# Altium schematic symbol library Control_Part_V1.1.SchLib: 3 symbols
Pins are listed as number, name and electrical type; pins without a type are passive.

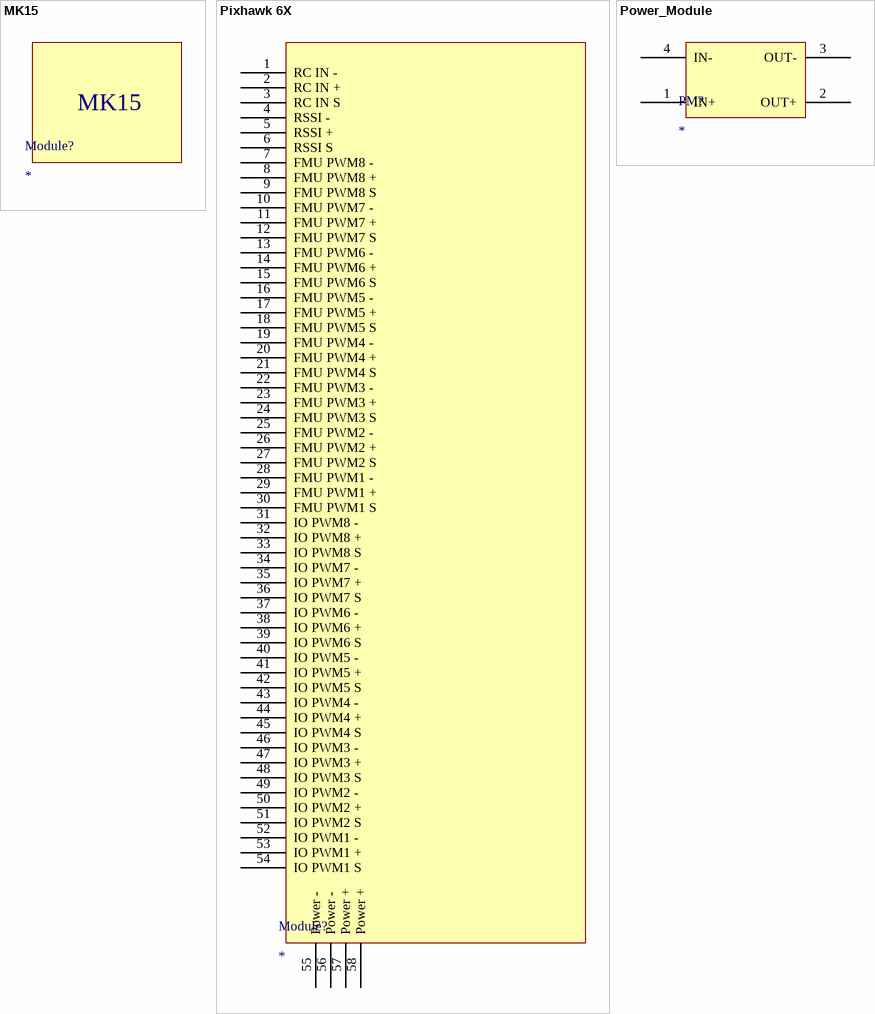
[diagram p0: symbols MK15 to Power_Module]

## MK15
designator Module?
footprint MK15

## Pixhawk 6X
designator Module?
footprint Pixhawk 6X
footprint CUAV_PixhawkV6X
pins: 1 RC IN -, 2 RC IN +, 3 RC IN S, 4 RSSI -, 5 RSSI +, 6 RSSI S, 7 FMU PWM8 -, 8 FMU PWM8 +, 9 FMU PWM8 S, 10 FMU PWM7 -, 11 FMU PWM7 +, 12 FMU PWM7 S, 13 FMU PWM6 -, 14 FMU PWM6 +, 15 FMU PWM6 S, 16 FMU PWM5 -, 17 FMU PWM5 +, 18 FMU PWM5 S, 19 FMU PWM4 -, 20 FMU PWM4 +, 21 FMU PWM4 S, 22 FMU PWM3 -, 23 FMU PWM3 +, 24 FMU PWM3 S, 25 FMU PWM2 -, 26 FMU PWM2 +, 27 FMU PWM2 S, 28 FMU PWM1 -, 29 FMU PWM1 +, 30 FMU PWM1 S, 31 IO PWM8 -, 32 IO PWM8 +, 33 IO PWM8 S, 34 IO PWM7 -, 35 IO PWM7 +, 36 IO PWM7 S, 37 IO PWM6 -, 38 IO PWM6 +, 39 IO PWM6 S, 40 IO PWM5 -, 41 IO PWM5 +, 42 IO PWM5 S, 43 IO PWM4 -, 44 IO PWM4 +, 45 IO PWM4 S, 46 IO PWM3 -, 47 IO PWM3 +, 48 IO PWM3 S, 49 IO PWM2 -, 50 IO PWM2 +, 51 IO PWM2 S, 52 IO PWM1 -, 53 IO PWM1 +, 54 IO PWM1 S, 55 Power -, 56 Power -, 57 Power +, 58 Power +

## Power_Module
designator PM?
footprint PCBComponent_1
pins: 1 IN+, 2 OUT+, 3 OUT-, 4 IN-